# Altium schematic symbol library MLL1200S.SchLib: 1 symbol
Pins are listed as number, name and electrical type; pins without a type are passive.

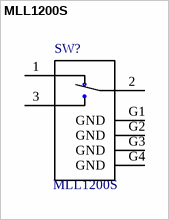
[diagram p0: symbol MLL1200S]

## MLL1200S
designator SW?
SWITCH SLIDE SPDT 300MA 4V; MF: TE; MP: MLL1200S; Price: 1.57 USD; Availability: Good; Package: None; Value: *
footprint SW_MLL1200S_MLL1200S(Primary)
pins: 1, 2, 3, G1 GND (power), G2 GND (power), G3 GND (power), G4 GND (power)